# EAGLE library part FT232R (library NSL_Tracker)
Source: http://www.ftdichip.com/Documents/DataSheets/DS_FT232R_v104.pdf
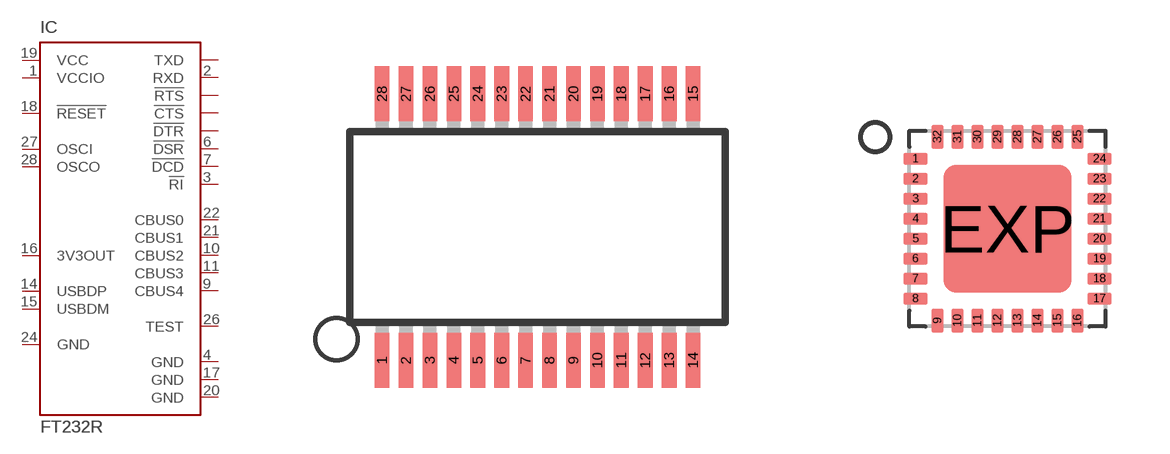
[diagram p4: symbol with the pads of SSOP28; footprints SSOP28, QFN32]

Designator prefix IC

## FT232RL  [SSOP28]
1  VCCIO  in
2  RXD  in
3  !RI  in
4  GND  in
6  !DSR  in
7  !DCD  in
9  CBUS4  in
10  CBUS2  in
11  CBUS3  in
14  USBDP  in
15  USBDM  in
16  3V3OUT  in
17  GND  in
18  !RESET  in
19  VCC  in
20  GND  in
21  CBUS1  in
22  CBUS0  in
24  GND  in
26  TEST  in
27  OSCI  in
28  OSCO  in

## FT232RQ  [QFN32]
1  VCCIO  in
2  RXD  in
3  !RI  in
4  GND  in
6  !DSR  in
7  !DCD  in
8  !CTS  in
9  CBUS4  in
10  CBUS2  in
11  CBUS3  in
14  USBDP  in
15  USBDM  in
16  3V3OUT  in
17  GND  in
18  !RESET  in
19  VCC  in
20  GND  in
21  CBUS1  in
22  CBUS0  in
24  GND  in
26  TEST  in
27  OSCI  in
28  OSCO  in
30  TXD  in
31  !DTR  in
32  !RTS  in

## Footprint SSOP28 (pad centres in mm)
Shrink Small Outline Package SSOP-28 http://www.ftdichip.com/Documents/DataSheets/DS_FT232R_v104.pdf
smd 0.4 x 1.5: 1 -4.225,-3.625; 2 -3.575,-3.625; 3 -2.925,-3.625; 4 -2.275,-3.625; 5 -1.625,-3.625; 6 -0.975,-3.625; 7 -0.325,-3.625; 8 0.325,-3.625; 9 0.975,-3.625; 10 1.625,-3.625; 11 2.275,-3.625; 12 2.925,-3.625; 13 3.575,-3.625; 14 4.225,-3.625; 15 4.225,3.625; 16 3.575,3.625; 17 2.925,3.625; 18 2.275,3.625; 19 1.625,3.625; 20 0.975,3.625; 21 0.325,3.625; 22 -0.325,3.625; 23 -0.975,3.625; 24 -1.625,3.625; 25 -2.275,3.625; 26 -2.925,3.625; 27 -3.575,3.625; 28 -4.225,3.625

## Footprint QFN32 (pad centres in mm)
QFN 32 Source: http://www.ftdichip.com/Documents/DataSheets/DS_FT232R_v104.pdf
smd 0.6 x 0.3: 1 -2.3,1.75; 2 -2.3,1.25; 3 -2.3,0.75; 4 -2.3,0.25; 5 -2.3,-0.25; 6 -2.3,-0.75; 7 -2.3,-1.25; 8 -2.3,-1.75; 17 2.3,-1.75; 18 2.3,-1.25; 19 2.3,-0.75; 20 2.3,-0.25; 21 2.3,0.25; 22 2.3,0.75; 23 2.3,1.25; 24 2.3,1.75
smd 0.3 x 0.6: 9 -1.75,-2.3; 10 -1.25,-2.3; 11 -0.75,-2.3; 12 -0.25,-2.3; 13 0.25,-2.3; 14 0.75,-2.3; 15 1.25,-2.3; 16 1.75,-2.3; 25 1.75,2.3; 26 1.25,2.3; 27 0.75,2.3; 28 0.25,2.3; 29 -0.25,2.3; 30 -0.75,2.3; 31 -1.25,2.3; 32 -1.75,2.3
smd 3.2 x 3.2: EXP 0,0